# Altium schematic symbol library Pasive.SchLib: 11 symbols
Pins are listed as number, name and electrical type; pins without a type are passive.

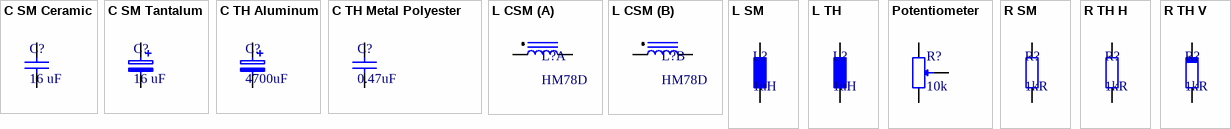
[diagram p0: symbols C SM Ceramic to R TH V]

## C SM Ceramic
designator C?, comment 16 uF
SMD capacitor; Voltage: 16V; Capacitance: 16 uF
footprint CAP 0603 (Chip Capacitor; Body 1.6 x 0.8 mm (LxW typ))
footprint CAP 0805 (Chip Capacitor; Body 2.0 x 1.2 mm (LxW typ))
footprint CAP 1206 (Chip Capacitor; Body 3.2 x 1.6 mm (LxW typ))
pins: 1, 2

## C SM Tantalum
designator C?, comment 16 uF
SMD polarized capacitor; Voltage: 16V; Capacitance: 16 uF
footprint TAN A (Capacitor, SM Tantalum; Body 3.2 x 1.6 mm (LxW typ))
footprint TAN B (Capacitor, SM Tantalum; Body 3.5 x 2.8 mm (LxW typ))
footprint TAN C (Capacitor, SM Tantalum; Body 6.0 x 3.2 mm (LxW typ))
footprint TAN D (Capacitor, SM Tantalum; Body 7.3 x 4.3 mm (LxW typ))
footprint TAN E (Capacitor, SM Tantalum; Body 7.3 x 6.0 mm (LxW typ))
pins: 1, 2

## C TH Aluminum
designator C?, comment 4700uF
TH polarized capacitor; Voltage: 35V; Capacitance: 4700uF
footprint CAP AL TH D4 LS1,5 H8 (4mm Diameter, 1,5mm Lead Spacing Aluminium Capacitor)
footprint CAP AL TH D5 LS2 H12 (5mm Diameter, 2mm Lead Spacing Aluminium Capacitor)
footprint CAP AL TH D8 LS3 H13 (8mm Diameter, 3mm Lead Spacing Aluminium Capacitor)
footprint CAP AL TH D13 LS5 H22 (13mm Diameter, 5mm Lead Spacing Aluminium Capacitor)
footprint CAP AL TH D16 LS7,5 H37 (16mm Diameter, 7,5mm Lead Spacing Aluminium Capacitor)
footprint CAP AL TH D22 LS10 H33 (22mm Diameter, 10mm Lead Spacing Aluminium Capacitor)
pins: 1, 2

## C TH Metal Polyester
designator C?, comment 0.47uF
SMD polarized capacitor; Voltage: 250V; Capacitance: 0.47uF
footprint CAP MP TH LxW27x16 LS22 H24 (Metallised Polyester Film Capacitor, length 27mm, width 16mm, lead spacing 22mm, height 24mm)
footprint CAP MP TH LxW18x6 LS15 H12 (Metallised Polyester Film Capacitor, length 18mm, width 6mm, lead spacing 15mm, height 12mm)
pins: 1, 2

## L CSM
designator L?, comment HM78D
Coupled inductor; Manufacturer: TT BI; Manufacturer Part Number: HM78D-1286R8MLFTR; Inductance - Parallel: 6.8 uH; Inductance - Series: 27.2 uH; Tolerance: 20 %; Maximum DC Current: 13.1 A; Maximum DC Resistance: 24 mOhms; Brand: BI Technologies / TT Electronics; Type: Surface Mount Coupled Inductor; Product Category: Coupled Inductors; RoHS: True; Operating Temperature Range: - 40 C to + 85 C; Length: 12.5 mm; Width: 12.5 mm; Height: 8.05 mm; Series: HM78D; Mounting Style: SMD/SMT; Packaging: Reel; Product: Coupled Inductors; Factory Pack Quantity: 500; Termination Style: SMD/SMT; ComponentLink1URL: https://www.distrelec.biz/Web/Downloads/96/42/hm78_eng_tds.pdf?mime=application%2Fpdf&src-supplier=Distrelec; ComponentLink1Description: https://www.distrelec.biz/Web/Downloads/96/42/hm78_eng_tds.pdf?mime=application%2Fpdf&src-supplier=Distrelec
footprint CIND 1212 (Coupled power Inductor, 4-Leads, Body 12.5mm x 12.5mm x 8.5mm)
part A pins: 1, 3
part B pins: 2, 4

## L SM
designator L?, comment 1uH
SMD inductor; Power: 0.25W; Inductance: 1uH
footprint IND 0603 (Chip Capacitor; Body 1.6 x 0.8 mm (LxW typ))
footprint IND 0805 (Chip Capacitor; Body 2.0 x 1.2 mm (LxW typ))
footprint IND 1206 (Chip Capacitor; Body 3.2 x 1.6 mm (LxW typ))
footprint IND 1812 (Chip Inductor, 2-Leads, Body 4.50x3.20mm, IPC Medium Density)
pins: 1, 2

## L TH
designator L?, comment 1uH
TH inductor; Power: 0.25W; Inductance: 1uH
footprint IND TH
pins: 1, 2

## Potentiometer
designator R?, comment 10k
Trimmer; Resistance: 10k
footprint TRIM_L_flat
pins: 1, 2, 3

## R SM
designator R?, comment 1kR
SMD resistors; Power: 0.25W; Resistance: 1kR
footprint RES 0603 (Chip Capacitor; Body 1.6 x 0.8 mm (LxW typ))
footprint RES 0805 (Chip Capacitor; Body 2.0 x 1.2 mm (LxW typ))
footprint RES 1206 (Chip Capacitor; Body 3.2 x 1.6 mm (LxW typ))
pins: 1, 2

## R TH H
designator R?, comment 1kR
TH horizontal resistor; Power: 0.25W; Resistance: 1kR
footprint RES 0,5W H
footprint RES 0,25W H
footprint RES 0,125W H
footprint RES 1W H
pins: 1, 2

## R TH V
designator R?, comment 1kR
TH vertical resistor; Power: 0.25W; Resistance: 1kR
footprint RES 1W V
footprint RES 0,25W V
footprint RES 0,5W V
footprint RES 0,125W V
pins: 1, 2